# Altium integrated library Analog Devices Data Converters Analog-to-Digital Converters.IntLib: 2404 symbols (part 258 of 346)
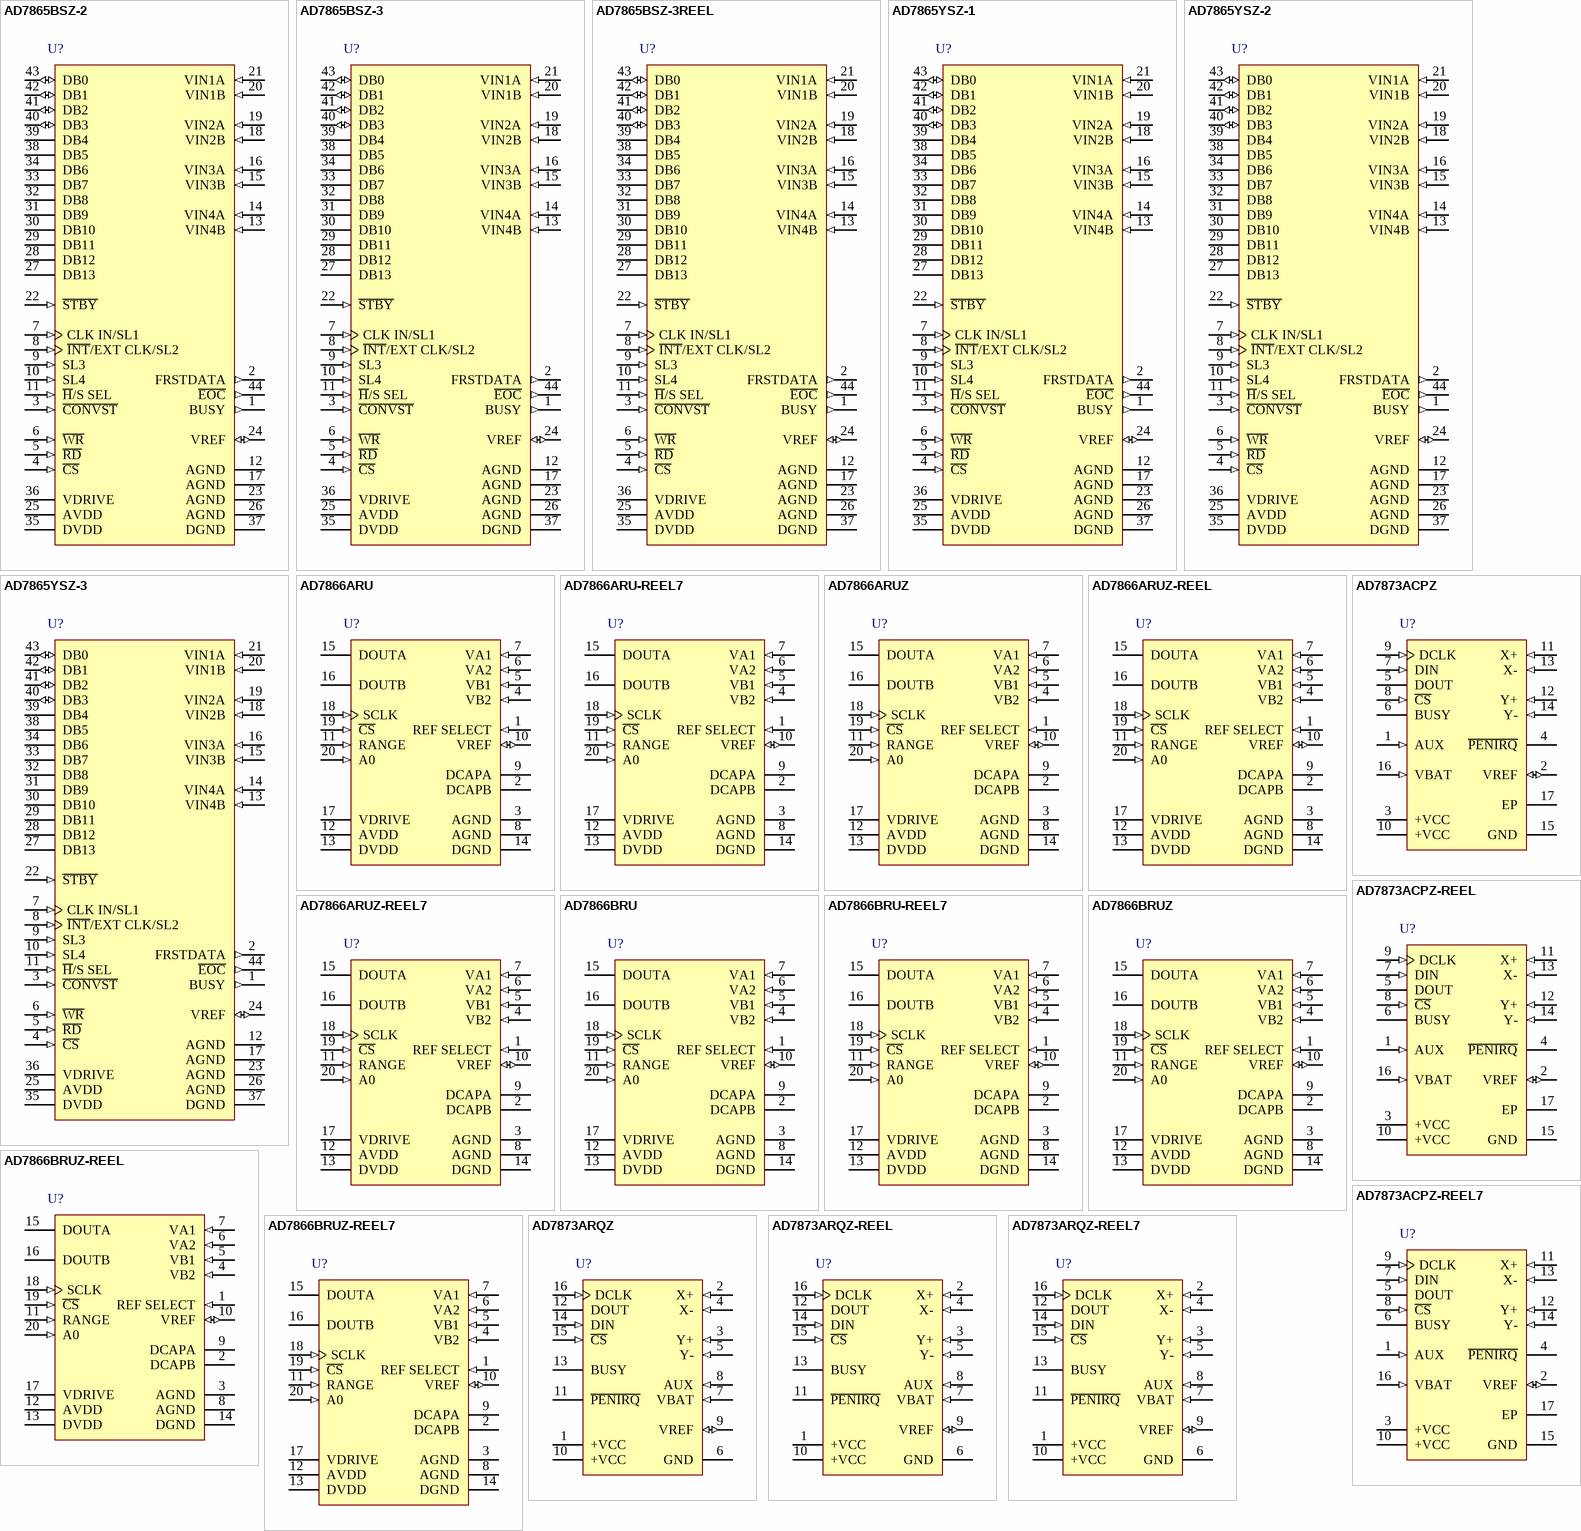
[diagram p292: symbols AD7865BSZ-2 to AD7873ARQZ-REEL7]

## AD7866BRU-REEL7
designator U?
Dual 12-Bit SAR Analog-to-Digital Converter with Serial, SPI Interface, 1MSPS, -40 to +125 degC, RU-20, Reel; Generic Part Number: AD7866; Manufacturer: Analog Devices; PartNumber: AD7866BRU-REEL7; Resolution (Bits): 12; Channels: 4; Throughput Rate (SPS): 1M; Interface: Ser, SPI; DatasheetVersion: Rev.A; PackageVersion: 2000; PackageReference: RU-20; PackageDescription: 20-Lead Thin Shrink Small Outline Package [TSSOP]; Supplier 1: Digi-Key; Supplier Part Number 1: AD7866BRU-REEL7-ND; Supplier 2: Newark; Supplier Part Number 2: 02H1742; Supplier 3: Mouser; Supplier Part Number 3: 584-AD7866BRU-R7; RoHS: N; Packing: Reel; Mounting Technology: Surface Mount; Code_JEDEC: MO-153AC; ComponentLink1Description: Manufacturer URL; ComponentLink1URL: http://www.analog.com/en/index.html; ComponentLink2Description: Datasheet; ComponentLink2URL: http://www.analog.com/static/imported-files/data_sheets/AD7866.pdf; ComponentLink3Description: Package Specification; ComponentLink3URL: http://www.analog.com/static/imported-files/packages/364515793657813558433715854054607941441RU20.pdf; ComponentLink4Description: Product URL; ComponentLink4URL: http://www.analog.com/en/analog-to-digital-converters/ad-converters/ad7866/products/product.html
footprint RU-20_N (TSOP, 20-Leads, Body 6.5x4.4mm, Pitch 0.65mm, IPC Medium Density)
footprint RU-20_L (TSOP, 20-Leads, Body 6.5x4.4mm, Pitch 0.65mm, IPC High Density)
footprint RU-20_M (TSOP, 20-Leads, Body 6.5x4.4mm, Pitch 0.65mm, IPC Low Density)
pins: 1 REF SELECT (in) "Internal/External Reference Selection. Logic input. If this pin is tied to GND, the on-chip 2.5 V reference is used as the reference source for both ADC A and ADC B. In addition, pins VREF, DCAPA, and DCAPB must be tied to (See Datasheet)", 2 DCAPB "Decoupling capacitors are connected to these pins to decouple the reference buffer for each respective ADC. The on-chip reference can be taken from these pins and applied externally to the rest of a system. Depending on the (See Datasheet)", 3 AGND (power) "Analog Ground. Ground reference point for all analog circuitry on the AD7866. All analog input signals and any external reference signal should be referred to this AGND voltage. Both of these pins should connect to the AGND (See Datasheet)", 4 VB2 (in) "Analog Inputs of ADC B. Single-ended analog input channels. The input range on each channel is 0 V to VREF or a 2 X VREF range depending on the polarity of the RANGE pin upon the falling edge of C\S\.", 5 VB1 (in) "Analog Inputs of ADC B. Single-ended analog input channels. The input range on each channel is 0 V to VREF or a 2 X VREF range depending on the polarity of the RANGE pin upon the falling edge of C\S\.", 6 VA2 (in) "Analog Inputs of ADC A. Single-ended analog input channels. The input range on each channel is 0 V to VREF or a 2 X VREF range depending on the polarity of the RANGE pin upon the falling edge of C\S\.", 7 VA1 (in) "Analog Inputs of ADC A. Single-ended analog input channels. The input range on each channel is 0 V to VREF or a 2 X VREF range depending on the polarity of the RANGE pin upon the falling edge of C\S\.", 8 AGND (power) "Analog Ground. Ground reference point for all analog circuitry on the AD7866. All analog input signals and any external reference signal should be referred to this AGND voltage. Both of these pins should connect to the AGND (See Datasheet)", 9 DCAPA "Decoupling capacitors are connected to these pins to decouple the reference buffer for each respective ADC. The on-chip reference can be taken from these pins and applied externally to the rest of a system. Depending on the (See Datasheet)", 10 VREF (io) "Reference Decoupling and External Reference Selection. This pin is connected to the internal reference and requires a decoupling capacitor. The nominal reference voltage is 2.5 V, which appears at the pin; however, if the (See Datasheet)", 11 RANGE (in) "Analog Input Range and Output Coding Selection. Logic input. The polarity on this pin will determine what input range the analog input channels on the AD7866 will have, and will also select the type of output coding the ADC (See Datasheet)", 12 AVDD (power) "Analog Supply Voltage, 2.7 V to 5.25 V. This is the only supply voltage for all analog circuitry on the AD7866. The AVDD and DVDD voltages ideally should be at the same potential and must not be more than 0.3 V apart even on (See Datasheet)", 13 DVDD (power) "Digital Supply Voltage, 2.7 V to 5.25 V. This is the supply voltage for all digital circuitry on the AD7866. The DVDD and AVDD voltages should ideally be at the same potential and must not be more than 0.3 V apart even on a (See Datasheet)", 14 DGND (power) "Digital Ground. This is the ground reference point for all digital circuitry on the AD7866. The DGND and AGND voltages ideally should be at the same potential and must not be more than 0.3 V apart even on a transient basis.", 15 DOUTA (hiz) "Serial Data Outputs. The data output is supplied to this pin as a serial data stream. The bits are clocked out on the falling edge of the SCLK input. The data appears on both pins simultaneously from the simultaneous (See Datasheet)", 16 DOUTB (hiz) "Serial Data Outputs. The data output is supplied to this pin as a serial data stream. The bits are clocked out on the falling edge of the SCLK input. The data appears on both pins simultaneously from the simultaneous (See Datasheet)", 17 VDRIVE (power) "Logic Power Supply Input. The voltage supplied at this pin determines at what voltage the interface will operate. This pin should be decoupled to DGND.", 18 SCLK (in) "Serial Clock. Logic Input. A serial clock input provides the SCLK for accessing the data from the AD7866. This clock is also used as the clock source for the conversion process.", 19 ~{CS} (in) "Chip Select. Active low logic input. This input provides the dual function of initiating conversions on the AD7866 and frames the serial data transfer.", 20 A0 (in) "Multiplexer Select. Logic input. This input is used to select the pair of channels to be converted simultaneously, i.e., Channel 1 of both ADC A and ADC B, or Channel 2 of both ADC A and ADC B. The logic state of this pin is (See Datasheet)"

## AD7866BRUZ
designator U?
Dual 12-Bit SAR Analog-to-Digital Converter with Serial, SPI Interface, 1MSPS, -40 to +125 degC, RU-20, Pb-Free, Tube; Generic Part Number: AD7866; Manufacturer: Analog Devices; PartNumber: AD7866BRUZ; Resolution (Bits): 12; Channels: 4; Throughput Rate (SPS): 1M; Interface: Ser, SPI; DatasheetVersion: Rev.A; PackageVersion: 2000; PackageReference: RU-20; PackageDescription: 20-Lead Thin Shrink Small Outline Package [TSSOP]; Supplier 1: Digi-Key; Supplier Part Number 1: AD7866BRUZ-ND; Supplier 2: Farnell; Supplier Part Number 2: 2192245; Supplier 3: Newark; Supplier Part Number 3: 59K5775; Supplier 4: Mouser; Supplier Part Number 4: 584-AD7866BRUZ; RoHS: Y; Packing: Tube; Mounting Technology: Surface Mount; Code_JEDEC: MO-153AC; ComponentLink1Description: Manufacturer URL; ComponentLink1URL: http://www.analog.com/en/index.html; ComponentLink2Description: Datasheet; ComponentLink2URL: http://www.analog.com/static/imported-files/data_sheets/AD7866.pdf; ComponentLink3Description: Package Specification; ComponentLink3URL: http://www.analog.com/static/imported-files/packages/364515793657813558433715854054607941441RU20.pdf; ComponentLink4Description: Product URL; ComponentLink4URL: http://www.analog.com/en/analog-to-digital-converters/ad-converters/ad7866/products/product.html
footprint RU-20_N (TSOP, 20-Leads, Body 6.5x4.4mm, Pitch 0.65mm, IPC Medium Density)
footprint RU-20_L (TSOP, 20-Leads, Body 6.5x4.4mm, Pitch 0.65mm, IPC High Density)
footprint RU-20_M (TSOP, 20-Leads, Body 6.5x4.4mm, Pitch 0.65mm, IPC Low Density)
pins: 1 REF SELECT (in) "Internal/External Reference Selection. Logic input. If this pin is tied to GND, the on-chip 2.5 V reference is used as the reference source for both ADC A and ADC B. In addition, pins VREF, DCAPA, and DCAPB must be tied to (See Datasheet)", 2 DCAPB "Decoupling capacitors are connected to these pins to decouple the reference buffer for each respective ADC. The on-chip reference can be taken from these pins and applied externally to the rest of a system. Depending on the (See Datasheet)", 3 AGND (power) "Analog Ground. Ground reference point for all analog circuitry on the AD7866. All analog input signals and any external reference signal should be referred to this AGND voltage. Both of these pins should connect to the AGND (See Datasheet)", 4 VB2 (in) "Analog Inputs of ADC B. Single-ended analog input channels. The input range on each channel is 0 V to VREF or a 2 X VREF range depending on the polarity of the RANGE pin upon the falling edge of C\S\.", 5 VB1 (in) "Analog Inputs of ADC B. Single-ended analog input channels. The input range on each channel is 0 V to VREF or a 2 X VREF range depending on the polarity of the RANGE pin upon the falling edge of C\S\.", 6 VA2 (in) "Analog Inputs of ADC A. Single-ended analog input channels. The input range on each channel is 0 V to VREF or a 2 X VREF range depending on the polarity of the RANGE pin upon the falling edge of C\S\.", 7 VA1 (in) "Analog Inputs of ADC A. Single-ended analog input channels. The input range on each channel is 0 V to VREF or a 2 X VREF range depending on the polarity of the RANGE pin upon the falling edge of C\S\.", 8 AGND (power) "Analog Ground. Ground reference point for all analog circuitry on the AD7866. All analog input signals and any external reference signal should be referred to this AGND voltage. Both of these pins should connect to the AGND (See Datasheet)", 9 DCAPA "Decoupling capacitors are connected to these pins to decouple the reference buffer for each respective ADC. The on-chip reference can be taken from these pins and applied externally to the rest of a system. Depending on the (See Datasheet)", 10 VREF (io) "Reference Decoupling and External Reference Selection. This pin is connected to the internal reference and requires a decoupling capacitor. The nominal reference voltage is 2.5 V, which appears at the pin; however, if the (See Datasheet)", 11 RANGE (in) "Analog Input Range and Output Coding Selection. Logic input. The polarity on this pin will determine what input range the analog input channels on the AD7866 will have, and will also select the type of output coding the ADC (See Datasheet)", 12 AVDD (power) "Analog Supply Voltage, 2.7 V to 5.25 V. This is the only supply voltage for all analog circuitry on the AD7866. The AVDD and DVDD voltages ideally should be at the same potential and must not be more than 0.3 V apart even on (See Datasheet)", 13 DVDD (power) "Digital Supply Voltage, 2.7 V to 5.25 V. This is the supply voltage for all digital circuitry on the AD7866. The DVDD and AVDD voltages should ideally be at the same potential and must not be more than 0.3 V apart even on a (See Datasheet)", 14 DGND (power) "Digital Ground. This is the ground reference point for all digital circuitry on the AD7866. The DGND and AGND voltages ideally should be at the same potential and must not be more than 0.3 V apart even on a transient basis.", 15 DOUTA (hiz) "Serial Data Outputs. The data output is supplied to this pin as a serial data stream. The bits are clocked out on the falling edge of the SCLK input. The data appears on both pins simultaneously from the simultaneous (See Datasheet)", 16 DOUTB (hiz) "Serial Data Outputs. The data output is supplied to this pin as a serial data stream. The bits are clocked out on the falling edge of the SCLK input. The data appears on both pins simultaneously from the simultaneous (See Datasheet)", 17 VDRIVE (power) "Logic Power Supply Input. The voltage supplied at this pin determines at what voltage the interface will operate. This pin should be decoupled to DGND.", 18 SCLK (in) "Serial Clock. Logic Input. A serial clock input provides the SCLK for accessing the data from the AD7866. This clock is also used as the clock source for the conversion process.", 19 ~{CS} (in) "Chip Select. Active low logic input. This input provides the dual function of initiating conversions on the AD7866 and frames the serial data transfer.", 20 A0 (in) "Multiplexer Select. Logic input. This input is used to select the pair of channels to be converted simultaneously, i.e., Channel 1 of both ADC A and ADC B, or Channel 2 of both ADC A and ADC B. The logic state of this pin is (See Datasheet)"

## AD7866BRUZ-REEL
designator U?
Dual 12-Bit SAR Analog-to-Digital Converter with Serial, SPI Interface, 1MSPS, -40 to +125 degC, RU-20, Pb-Free, Reel; Generic Part Number: AD7866; Manufacturer: Analog Devices; PartNumber: AD7866BRUZ-REEL; Resolution (Bits): 12; Channels: 4; Throughput Rate (SPS): 1M; Interface: Ser, SPI; DatasheetVersion: Rev.A; PackageVersion: 2000; PackageReference: RU-20; PackageDescription: 20-Lead Thin Shrink Small Outline Package [TSSOP]; Supplier 1: Digi-Key; Supplier Part Number 1: AD7866BRUZ-REEL-ND; Supplier 2: Mouser; Supplier Part Number 2: 584-AD7866BRUZ-R; RoHS: Y; Packing: Reel; Mounting Technology: Surface Mount; Code_JEDEC: MO-153AC; ComponentLink1Description: Manufacturer URL; ComponentLink1URL: http://www.analog.com/en/index.html; ComponentLink2Description: Datasheet; ComponentLink2URL: http://www.analog.com/static/imported-files/data_sheets/AD7866.pdf; ComponentLink3Description: Package Specification; ComponentLink3URL: http://www.analog.com/static/imported-files/packages/364515793657813558433715854054607941441RU20.pdf; ComponentLink4Description: Product URL; ComponentLink4URL: http://www.analog.com/en/analog-to-digital-converters/ad-converters/ad7866/products/product.html
footprint RU-20_N (TSOP, 20-Leads, Body 6.5x4.4mm, Pitch 0.65mm, IPC Medium Density)
footprint RU-20_L (TSOP, 20-Leads, Body 6.5x4.4mm, Pitch 0.65mm, IPC High Density)
footprint RU-20_M (TSOP, 20-Leads, Body 6.5x4.4mm, Pitch 0.65mm, IPC Low Density)
pins: 1 REF SELECT (in) "Internal/External Reference Selection. Logic input. If this pin is tied to GND, the on-chip 2.5 V reference is used as the reference source for both ADC A and ADC B. In addition, pins VREF, DCAPA, and DCAPB must be tied to (See Datasheet)", 2 DCAPB "Decoupling capacitors are connected to these pins to decouple the reference buffer for each respective ADC. The on-chip reference can be taken from these pins and applied externally to the rest of a system. Depending on the (See Datasheet)", 3 AGND (power) "Analog Ground. Ground reference point for all analog circuitry on the AD7866. All analog input signals and any external reference signal should be referred to this AGND voltage. Both of these pins should connect to the AGND (See Datasheet)", 4 VB2 (in) "Analog Inputs of ADC B. Single-ended analog input channels. The input range on each channel is 0 V to VREF or a 2 X VREF range depending on the polarity of the RANGE pin upon the falling edge of C\S\.", 5 VB1 (in) "Analog Inputs of ADC B. Single-ended analog input channels. The input range on each channel is 0 V to VREF or a 2 X VREF range depending on the polarity of the RANGE pin upon the falling edge of C\S\.", 6 VA2 (in) "Analog Inputs of ADC A. Single-ended analog input channels. The input range on each channel is 0 V to VREF or a 2 X VREF range depending on the polarity of the RANGE pin upon the falling edge of C\S\.", 7 VA1 (in) "Analog Inputs of ADC A. Single-ended analog input channels. The input range on each channel is 0 V to VREF or a 2 X VREF range depending on the polarity of the RANGE pin upon the falling edge of C\S\.", 8 AGND (power) "Analog Ground. Ground reference point for all analog circuitry on the AD7866. All analog input signals and any external reference signal should be referred to this AGND voltage. Both of these pins should connect to the AGND (See Datasheet)", 9 DCAPA "Decoupling capacitors are connected to these pins to decouple the reference buffer for each respective ADC. The on-chip reference can be taken from these pins and applied externally to the rest of a system. Depending on the (See Datasheet)", 10 VREF (io) "Reference Decoupling and External Reference Selection. This pin is connected to the internal reference and requires a decoupling capacitor. The nominal reference voltage is 2.5 V, which appears at the pin; however, if the (See Datasheet)", 11 RANGE (in) "Analog Input Range and Output Coding Selection. Logic input. The polarity on this pin will determine what input range the analog input channels on the AD7866 will have, and will also select the type of output coding the ADC (See Datasheet)", 12 AVDD (power) "Analog Supply Voltage, 2.7 V to 5.25 V. This is the only supply voltage for all analog circuitry on the AD7866. The AVDD and DVDD voltages ideally should be at the same potential and must not be more than 0.3 V apart even on (See Datasheet)", 13 DVDD (power) "Digital Supply Voltage, 2.7 V to 5.25 V. This is the supply voltage for all digital circuitry on the AD7866. The DVDD and AVDD voltages should ideally be at the same potential and must not be more than 0.3 V apart even on a (See Datasheet)", 14 DGND (power) "Digital Ground. This is the ground reference point for all digital circuitry on the AD7866. The DGND and AGND voltages ideally should be at the same potential and must not be more than 0.3 V apart even on a transient basis.", 15 DOUTA (hiz) "Serial Data Outputs. The data output is supplied to this pin as a serial data stream. The bits are clocked out on the falling edge of the SCLK input. The data appears on both pins simultaneously from the simultaneous (See Datasheet)", 16 DOUTB (hiz) "Serial Data Outputs. The data output is supplied to this pin as a serial data stream. The bits are clocked out on the falling edge of the SCLK input. The data appears on both pins simultaneously from the simultaneous (See Datasheet)", 17 VDRIVE (power) "Logic Power Supply Input. The voltage supplied at this pin determines at what voltage the interface will operate. This pin should be decoupled to DGND.", 18 SCLK (in) "Serial Clock. Logic Input. A serial clock input provides the SCLK for accessing the data from the AD7866. This clock is also used as the clock source for the conversion process.", 19 ~{CS} (in) "Chip Select. Active low logic input. This input provides the dual function of initiating conversions on the AD7866 and frames the serial data transfer.", 20 A0 (in) "Multiplexer Select. Logic input. This input is used to select the pair of channels to be converted simultaneously, i.e., Channel 1 of both ADC A and ADC B, or Channel 2 of both ADC A and ADC B. The logic state of this pin is (See Datasheet)"

## AD7866BRUZ-REEL7
designator U?
Dual 12-Bit SAR Analog-to-Digital Converter with Serial, SPI Interface, 1MSPS, -40 to +125 degC, RU-20, Pb-Free, Reel; Generic Part Number: AD7866; Manufacturer: Analog Devices; PartNumber: AD7866BRUZ-REEL7; Resolution (Bits): 12; Channels: 4; Throughput Rate (SPS): 1M; Interface: Ser, SPI; DatasheetVersion: Rev.A; PackageVersion: 2000; PackageReference: RU-20; PackageDescription: 20-Lead Thin Shrink Small Outline Package [TSSOP]; Supplier 1: Digi-Key; Supplier Part Number 1: AD7866BRUZ-REEL7-ND; Supplier 2: Mouser; Supplier Part Number 2: 584-AD7866BRUZ-R7; RoHS: Y; Packing: Reel; Mounting Technology: Surface Mount; Code_JEDEC: MO-153AC; ComponentLink1Description: Manufacturer URL; ComponentLink1URL: http://www.analog.com/en/index.html; ComponentLink2Description: Datasheet; ComponentLink2URL: http://www.analog.com/static/imported-files/data_sheets/AD7866.pdf; ComponentLink3Description: Package Specification; ComponentLink3URL: http://www.analog.com/static/imported-files/packages/364515793657813558433715854054607941441RU20.pdf; ComponentLink4Description: Product URL; ComponentLink4URL: http://www.analog.com/en/analog-to-digital-converters/ad-converters/ad7866/products/product.html
footprint RU-20_N (TSOP, 20-Leads, Body 6.5x4.4mm, Pitch 0.65mm, IPC Medium Density)
footprint RU-20_L (TSOP, 20-Leads, Body 6.5x4.4mm, Pitch 0.65mm, IPC High Density)
footprint RU-20_M (TSOP, 20-Leads, Body 6.5x4.4mm, Pitch 0.65mm, IPC Low Density)
pins: 1 REF SELECT (in) "Internal/External Reference Selection. Logic input. If this pin is tied to GND, the on-chip 2.5 V reference is used as the reference source for both ADC A and ADC B. In addition, pins VREF, DCAPA, and DCAPB must be tied to (See Datasheet)", 2 DCAPB "Decoupling capacitors are connected to these pins to decouple the reference buffer for each respective ADC. The on-chip reference can be taken from these pins and applied externally to the rest of a system. Depending on the (See Datasheet)", 3 AGND (power) "Analog Ground. Ground reference point for all analog circuitry on the AD7866. All analog input signals and any external reference signal should be referred to this AGND voltage. Both of these pins should connect to the AGND (See Datasheet)", 4 VB2 (in) "Analog Inputs of ADC B. Single-ended analog input channels. The input range on each channel is 0 V to VREF or a 2 X VREF range depending on the polarity of the RANGE pin upon the falling edge of C\S\.", 5 VB1 (in) "Analog Inputs of ADC B. Single-ended analog input channels. The input range on each channel is 0 V to VREF or a 2 X VREF range depending on the polarity of the RANGE pin upon the falling edge of C\S\.", 6 VA2 (in) "Analog Inputs of ADC A. Single-ended analog input channels. The input range on each channel is 0 V to VREF or a 2 X VREF range depending on the polarity of the RANGE pin upon the falling edge of C\S\.", 7 VA1 (in) "Analog Inputs of ADC A. Single-ended analog input channels. The input range on each channel is 0 V to VREF or a 2 X VREF range depending on the polarity of the RANGE pin upon the falling edge of C\S\.", 8 AGND (power) "Analog Ground. Ground reference point for all analog circuitry on the AD7866. All analog input signals and any external reference signal should be referred to this AGND voltage. Both of these pins should connect to the AGND (See Datasheet)", 9 DCAPA "Decoupling capacitors are connected to these pins to decouple the reference buffer for each respective ADC. The on-chip reference can be taken from these pins and applied externally to the rest of a system. Depending on the (See Datasheet)", 10 VREF (io) "Reference Decoupling and External Reference Selection. This pin is connected to the internal reference and requires a decoupling capacitor. The nominal reference voltage is 2.5 V, which appears at the pin; however, if the (See Datasheet)", 11 RANGE (in) "Analog Input Range and Output Coding Selection. Logic input. The polarity on this pin will determine what input range the analog input channels on the AD7866 will have, and will also select the type of output coding the ADC (See Datasheet)", 12 AVDD (power) "Analog Supply Voltage, 2.7 V to 5.25 V. This is the only supply voltage for all analog circuitry on the AD7866. The AVDD and DVDD voltages ideally should be at the same potential and must not be more than 0.3 V apart even on (See Datasheet)", 13 DVDD (power) "Digital Supply Voltage, 2.7 V to 5.25 V. This is the supply voltage for all digital circuitry on the AD7866. The DVDD and AVDD voltages should ideally be at the same potential and must not be more than 0.3 V apart even on a (See Datasheet)", 14 DGND (power) "Digital Ground. This is the ground reference point for all digital circuitry on the AD7866. The DGND and AGND voltages ideally should be at the same potential and must not be more than 0.3 V apart even on a transient basis.", 15 DOUTA (hiz) "Serial Data Outputs. The data output is supplied to this pin as a serial data stream. The bits are clocked out on the falling edge of the SCLK input. The data appears on both pins simultaneously from the simultaneous (See Datasheet)", 16 DOUTB (hiz) "Serial Data Outputs. The data output is supplied to this pin as a serial data stream. The bits are clocked out on the falling edge of the SCLK input. The data appears on both pins simultaneously from the simultaneous (See Datasheet)", 17 VDRIVE (power) "Logic Power Supply Input. The voltage supplied at this pin determines at what voltage the interface will operate. This pin should be decoupled to DGND.", 18 SCLK (in) "Serial Clock. Logic Input. A serial clock input provides the SCLK for accessing the data from the AD7866. This clock is also used as the clock source for the conversion process.", 19 ~{CS} (in) "Chip Select. Active low logic input. This input provides the dual function of initiating conversions on the AD7866 and frames the serial data transfer.", 20 A0 (in) "Multiplexer Select. Logic input. This input is used to select the pair of channels to be converted simultaneously, i.e., Channel 1 of both ADC A and ADC B, or Channel 2 of both ADC A and ADC B. The logic state of this pin is (See Datasheet)"

## AD7873ACPZ
designator U?
6 Channel Touch Screen Digitizer with Serial Interface, 125KSPS, -40 to +85 degC, CP-16-4, Pb-Free, Tray; Generic Part Number: AD7873; Manufacturer: Analog Devices; PartNumber: AD7873ACPZ; Resolution (Bits): 12; Channels: 6; Throughput Rate (SPS): 125K; Interface: Ser; DatasheetVersion: Rev.E; PackageVersion: 010606-0; PackageReference: CP-16-4; PackageDescription: 16-Lead Lead Frame Chip Scale Package [LFCSP_VQ] 4 x 4 mm Body, Very Thin Quad; Supplier 1: Digi-Key; Supplier Part Number 1: AD7873ACPZ-ND; Supplier 2: Newark; Supplier Part Number 2: 19M8859; Supplier 3: Mouser; Supplier Part Number 3: 584-AD7873ACPZ; RoHS: Y; Packing: Tray; Mounting Technology: Surface Mount; Code_JEDEC: MO-220-VGGC; ComponentLink1Description: Manufacturer URL; ComponentLink1URL: http://www.analog.com/en/index.html; ComponentLink2Description: Datasheet; ComponentLink2URL: http://www.analog.com/static/imported-files/data_sheets/AD7873.pdf; ComponentLink3Description: Package Specification; ComponentLink3URL: http://www.analog.com/static/imported-files/packages/46009454504174339653421710019CP_16_4.pdf; ComponentLink4Description: Product URL; ComponentLink4URL: http://www.analog.com/en/analog-to-digital-converters/ad-converters/ad7873/products/product.html
footprint CP-16-4_N (QFN, 16-Leads, Body 4x4mm, Pitch 0.65mm, Thermal Pad 2.1x2.1mm, IPC Medium Density)
footprint CP-16-4_L (QFN, 16-Leads, Body 4x4mm, Pitch 0.65mm, Thermal Pad 2.1x2.1mm, IPC High Density)
footprint CP-16-4_M (QFN, 16-Leads, Body 4x4mm, Pitch 0.65mm, Thermal Pad 2.1x2.1mm, IPC Low Density)
pins: 1 AUX (in) "Auxiliary Input. ADC Input Channel 5.", 2 VREF (io) "Reference Output for the AD7873. Alternatively, an external reference can be applied to this input. The voltage range for the external reference is 1.0 V to +VCC. For specified performance, it is 2.5 V on the AD7873. The (See Datasheet)", 3 +VCC (power) "Power Supply Input. The +VCC range for the AD7873 is from 2.2 V to 5.25 V. Both +VCC pins should be connected directly together.", 4 ~{PENIRQ} (oc) "Pen Interrupt. CMOS logic open-drain output (requires 10 kO to 100 kO pull-up resistor externally).", 5 DOUT (hiz) "Data Out. Logic output. The conversion result from the AD7873 is provided on this output as a serial data stream. The bits are clocked out on the falling edge of the DCLK input. This output is high impedance when C\S\ is (See Datasheet)", 6 BUSY (hiz) "BUSY Output. Logic output. This output is high impedance when C\S\ is high.", 7 DIN (in) "Data In. Logic Input. Data to be written to the AD7873 control register is provided on this input and is clocked into the register on the rising edge of DCLK (see the Control Register section).", 8 ~{CS} (in) "Chip Select Input. Active low logic input. This input provides the dual function of initiating conversions on the AD7873 and enabling the serial input/output register.", 9 DCLK (in) "External Clock Input. Logic input. DCLK provides the serial clock for accessing data from the part. This clock input is also used as the clock source for the AD7873 conversion process.", 10 +VCC (power) "Power Supply Input. The +VCC range for the AD7873 is from 2.2 V to 5.25 V. Both +VCC pins should be connected directly together.", 11 X+ (in) "X+ Position Input. ADC Input Channel 1.", 12 Y+ (in) "Y+ Position Input. ADC Input Channel 2.", 13 X- (in) "X- Position Input.", 14 Y- (in) "Y- Position Input. ADC Input Channel 3.", 15 GND (power) "Analog Ground. Ground reference point for all circuitry on the AD7873. All analog input signals and any external reference signals should be referred to this GND voltage.", 16 VBAT (in) "Battery Monitor Input. ADC Input Channel 4.", 17 EP (power) "Exposed pad."

## AD7873ACPZ-REEL
designator U?
6 Channel Touch Screen Digitizer with Serial Interface, 125KSPS, -40 to +85 degC, CP-16-4, Pb-Free, Reel; Generic Part Number: AD7873; Manufacturer: Analog Devices; PartNumber: AD7873ACPZ-REEL; Resolution (Bits): 12; Channels: 6; Throughput Rate (SPS): 125K; Interface: Ser; DatasheetVersion: Rev.E; PackageVersion: 010606-0; PackageReference: CP-16-4; PackageDescription: 16-Lead Lead Frame Chip Scale Package [LFCSP_VQ] 4 x 4 mm Body, Very Thin Quad; Supplier 1: Digi-Key; Supplier Part Number 1: AD7873ACPZ-REEL-ND; Supplier 2: Mouser; Supplier Part Number 2: 584-AD7873ACPZ-R; RoHS: Y; Packing: Reel; Mounting Technology: Surface Mount; Code_JEDEC: MO-220-VGGC; ComponentLink1Description: Manufacturer URL; ComponentLink1URL: http://www.analog.com/en/index.html; ComponentLink2Description: Datasheet; ComponentLink2URL: http://www.analog.com/static/imported-files/data_sheets/AD7873.pdf; ComponentLink3Description: Package Specification; ComponentLink3URL: http://www.analog.com/static/imported-files/packages/46009454504174339653421710019CP_16_4.pdf; ComponentLink4Description: Product URL; ComponentLink4URL: http://www.analog.com/en/analog-to-digital-converters/ad-converters/ad7873/products/product.html
footprint CP-16-4_N (QFN, 16-Leads, Body 4x4mm, Pitch 0.65mm, Thermal Pad 2.1x2.1mm, IPC Medium Density)
footprint CP-16-4_L (QFN, 16-Leads, Body 4x4mm, Pitch 0.65mm, Thermal Pad 2.1x2.1mm, IPC High Density)
footprint CP-16-4_M (QFN, 16-Leads, Body 4x4mm, Pitch 0.65mm, Thermal Pad 2.1x2.1mm, IPC Low Density)
pins: 1 AUX (in) "Auxiliary Input. ADC Input Channel 5.", 2 VREF (io) "Reference Output for the AD7873. Alternatively, an external reference can be applied to this input. The voltage range for the external reference is 1.0 V to +VCC. For specified performance, it is 2.5 V on the AD7873. The (See Datasheet)", 3 +VCC (power) "Power Supply Input. The +VCC range for the AD7873 is from 2.2 V to 5.25 V. Both +VCC pins should be connected directly together.", 4 ~{PENIRQ} (oc) "Pen Interrupt. CMOS logic open-drain output (requires 10 kO to 100 kO pull-up resistor externally).", 5 DOUT (hiz) "Data Out. Logic output. The conversion result from the AD7873 is provided on this output as a serial data stream. The bits are clocked out on the falling edge of the DCLK input. This output is high impedance when C\S\ is (See Datasheet)", 6 BUSY (hiz) "BUSY Output. Logic output. This output is high impedance when C\S\ is high.", 7 DIN (in) "Data In. Logic Input. Data to be written to the AD7873 control register is provided on this input and is clocked into the register on the rising edge of DCLK (see the Control Register section).", 8 ~{CS} (in) "Chip Select Input. Active low logic input. This input provides the dual function of initiating conversions on the AD7873 and enabling the serial input/output register.", 9 DCLK (in) "External Clock Input. Logic input. DCLK provides the serial clock for accessing data from the part. This clock input is also used as the clock source for the AD7873 conversion process.", 10 +VCC (power) "Power Supply Input. The +VCC range for the AD7873 is from 2.2 V to 5.25 V. Both +VCC pins should be connected directly together.", 11 X+ (in) "X+ Position Input. ADC Input Channel 1.", 12 Y+ (in) "Y+ Position Input. ADC Input Channel 2.", 13 X- (in) "X- Position Input.", 14 Y- (in) "Y- Position Input. ADC Input Channel 3.", 15 GND (power) "Analog Ground. Ground reference point for all circuitry on the AD7873. All analog input signals and any external reference signals should be referred to this GND voltage.", 16 VBAT (in) "Battery Monitor Input. ADC Input Channel 4.", 17 EP (power) "Exposed pad."

## AD7873ACPZ-REEL7
designator U?
6 Channel Touch Screen Digitizer with Serial Interface, 125KSPS, -40 to +85 degC, CP-16-4, Pb-Free, Reel; Generic Part Number: AD7873; Manufacturer: Analog Devices; PartNumber: AD7873ACPZ-REEL7; Resolution (Bits): 12; Channels: 6; Throughput Rate (SPS): 125K; Interface: Ser; DatasheetVersion: Rev.E; PackageVersion: 010606-0; PackageReference: CP-16-4; PackageDescription: 16-Lead Lead Frame Chip Scale Package [LFCSP_VQ] 4 x 4 mm Body, Very Thin Quad; Supplier 1: Digi-Key; Supplier Part Number 1: AD7873ACPZ-REEL7-ND; RoHS: Y; Packing: Reel; Mounting Technology: Surface Mount; Code_JEDEC: MO-220-VGGC; ComponentLink1Description: Manufacturer URL; ComponentLink1URL: http://www.analog.com/en/index.html; ComponentLink2Description: Datasheet; ComponentLink2URL: http://www.analog.com/static/imported-files/data_sheets/AD7873.pdf; ComponentLink3Description: Package Specification; ComponentLink3URL: http://www.analog.com/static/imported-files/packages/46009454504174339653421710019CP_16_4.pdf; ComponentLink4Description: Product URL; ComponentLink4URL: http://www.analog.com/en/analog-to-digital-converters/ad-converters/ad7873/products/product.html
footprint CP-16-4_N (QFN, 16-Leads, Body 4x4mm, Pitch 0.65mm, Thermal Pad 2.1x2.1mm, IPC Medium Density)
footprint CP-16-4_L (QFN, 16-Leads, Body 4x4mm, Pitch 0.65mm, Thermal Pad 2.1x2.1mm, IPC High Density)
footprint CP-16-4_M (QFN, 16-Leads, Body 4x4mm, Pitch 0.65mm, Thermal Pad 2.1x2.1mm, IPC Low Density)
pins: 1 AUX (in) "Auxiliary Input. ADC Input Channel 5.", 2 VREF (io) "Reference Output for the AD7873. Alternatively, an external reference can be applied to this input. The voltage range for the external reference is 1.0 V to +VCC. For specified performance, it is 2.5 V on the AD7873. The (See Datasheet)", 3 +VCC (power) "Power Supply Input. The +VCC range for the AD7873 is from 2.2 V to 5.25 V. Both +VCC pins should be connected directly together.", 4 ~{PENIRQ} (oc) "Pen Interrupt. CMOS logic open-drain output (requires 10 kO to 100 kO pull-up resistor externally).", 5 DOUT (hiz) "Data Out. Logic output. The conversion result from the AD7873 is provided on this output as a serial data stream. The bits are clocked out on the falling edge of the DCLK input. This output is high impedance when C\S\ is (See Datasheet)", 6 BUSY (hiz) "BUSY Output. Logic output. This output is high impedance when C\S\ is high.", 7 DIN (in) "Data In. Logic Input. Data to be written to the AD7873 control register is provided on this input and is clocked into the register on the rising edge of DCLK (see the Control Register section).", 8 ~{CS} (in) "Chip Select Input. Active low logic input. This input provides the dual function of initiating conversions on the AD7873 and enabling the serial input/output register.", 9 DCLK (in) "External Clock Input. Logic input. DCLK provides the serial clock for accessing data from the part. This clock input is also used as the clock source for the AD7873 conversion process.", 10 +VCC (power) "Power Supply Input. The +VCC range for the AD7873 is from 2.2 V to 5.25 V. Both +VCC pins should be connected directly together.", 11 X+ (in) "X+ Position Input. ADC Input Channel 1.", 12 Y+ (in) "Y+ Position Input. ADC Input Channel 2.", 13 X- (in) "X- Position Input.", 14 Y- (in) "Y- Position Input. ADC Input Channel 3.", 15 GND (power) "Analog Ground. Ground reference point for all circuitry on the AD7873. All analog input signals and any external reference signals should be referred to this GND voltage.", 16 VBAT (in) "Battery Monitor Input. ADC Input Channel 4.", 17 EP (power) "Exposed pad."

## AD7873ARQZ
designator U?
6 Channel Touch Screen Digitizer with Serial Interface, 125KSPS, -40 to +85 degC, RQ-16, Pb-Free, Tube; Generic Part Number: AD7873; Manufacturer: Analog Devices; PartNumber: AD7873ARQZ; Resolution (Bits): 12; Channels: 6; Throughput Rate (SPS): 125K; Interface: Ser; DatasheetVersion: Rev.E; PackageVersion: Aug-2005; PackageReference: RQ-16; PackageDescription: 16-Lead Shrink Small Outline Package [QSOP]; Supplier 1: Digi-Key; Supplier Part Number 1: AD7873ARQZ-ND; Supplier 2: Newark; Supplier Part Number 2: 59K5797; Supplier 3: Mouser; Supplier Part Number 3: 584-AD7873ARQZ; RoHS: Y; Packing: Tube; Mounting Technology: Surface Mount; Code_JEDEC: MO-137-AB; ComponentLink1Description: Manufacturer URL; ComponentLink1URL: http://www.analog.com/en/index.html; ComponentLink2Description: Datasheet; ComponentLink2URL: http://www.analog.com/static/imported-files/data_sheets/AD7873.pdf; ComponentLink3Description: Package Specification; ComponentLink3URL: http://www.analog.com/static/imported-files/packages/5595549651201762937RQ_16.pdf; ComponentLink4Description: Product URL; ComponentLink4URL: http://www.analog.com/en/analog-to-digital-converters/ad-converters/ad7873/products/product.html
footprint RQ-16_N (SOP, 16-Leads, Body 4.9x3.9mm, Pitch 0.635mm, IPC Medium Density)
footprint RQ-16_L (SOP, 16-Leads, Body 4.9x3.9mm, Pitch 0.635mm, IPC High Density)
footprint RQ-16_M (SOP, 16-Leads, Body 4.9x3.9mm, Pitch 0.635mm, IPC Low Density)
pins: 1 +VCC (power) "Power Supply Input. The +VCC range for the AD7873 is from 2.2 V to 5.25 V. Both +VCC pins should be connected directly together", 2 X+ (in) "X+ Position Input. ADC Input Channel 1.", 3 Y+ (in) "Y+ Position Input. ADC Input Channel 2.", 4 X- (in) "X- Position Input.", 5 Y- (in) "Y- Position Input. ADC Input Channel 3.", 6 GND (power) "Analog Ground. Ground reference point for all circuitry on the AD7873. All analog input signals and any external reference signals should be referred to this GND voltage.", 7 VBAT (in) "Battery Monitor Input. ADC Input Channel 4", 8 AUX (in) "Auxiliary Input. ADC Input Channel 5.", 9 VREF (io) "Reference Output for the AD7873. Alternatively, an external reference can be applied to this input.The voltage range for the external reference is 1.0 V to +VCC. For specified performance, it is 2.5 V on the AD7873. The (See Datasheet)", 10 +VCC (power) "Power Supply Input. The +VCC range for the AD7873 is from 2.2 V to 5.25 V. Both +VCC pins should be connected directly together", 11 ~{PENIRQ} (oc) "Pen Interrupt. CMOS logic open-drain output (requires 10 kO to 100 kO pull-up resistor externally).", 12 DOUT (hiz) "Data Out. Logic output. The conversion result from the AD7873 is provided on this output as a serial data stream. The bits are clocked out on the falling edge of the DCLK input. This output is high impedance when C\S\ is (See Datasheet)", 13 BUSY (hiz) "BUSY Output. Logic output. This output is high impedance when C\S\ is high", 14 DIN (in) "Data In. Logic Input. Data to be written to the AD7873 control register is provided on this input and is clocked into the register on the rising edge of DCLK (see the Control Register section).", 15 ~{CS} (in) "Chip Select Input. Active low logic input. This input provides the dual function of initiating conversions on the AD7873 and enabling the serial input/output register.", 16 DCLK (in) "External Clock Input. Logic input. DCLK provides the serial clock for accessing data from the part.This clock input is also used as the clock source for the AD7873 conversion process."

## AD7873ARQZ-REEL
designator U?
6 Channel Touch Screen Digitizer with Serial Interface, 125KSPS, -40 to +85 degC, RQ-16, Pb-Free, Reel; Generic Part Number: AD7873; Manufacturer: Analog Devices; PartNumber: AD7873ARQZ-REEL; Resolution (Bits): 12; Channels: 6; Throughput Rate (SPS): 125K; Interface: Ser; DatasheetVersion: Rev.E; PackageVersion: Aug-2005; PackageReference: RQ-16; PackageDescription: 16-Lead Shrink Small Outline Package [QSOP]; Supplier 1: Digi-Key; Supplier Part Number 1: AD7873ARQZ-REEL-ND; Supplier 2: Mouser; Supplier Part Number 2: 584-AD7873ARQZ-R; RoHS: Y; Packing: Reel; Mounting Technology: Surface Mount; Code_JEDEC: MO-137-AB; ComponentLink1Description: Manufacturer URL; ComponentLink1URL: http://www.analog.com/en/index.html; ComponentLink2Description: Datasheet; ComponentLink2URL: http://www.analog.com/static/imported-files/data_sheets/AD7873.pdf; ComponentLink3Description: Package Specification; ComponentLink3URL: http://www.analog.com/static/imported-files/packages/5595549651201762937RQ_16.pdf; ComponentLink4Description: Product URL; ComponentLink4URL: http://www.analog.com/en/analog-to-digital-converters/ad-converters/ad7873/products/product.html
footprint RQ-16_N (SOP, 16-Leads, Body 4.9x3.9mm, Pitch 0.635mm, IPC Medium Density)
footprint RQ-16_L (SOP, 16-Leads, Body 4.9x3.9mm, Pitch 0.635mm, IPC High Density)
footprint RQ-16_M (SOP, 16-Leads, Body 4.9x3.9mm, Pitch 0.635mm, IPC Low Density)
pins: 1 +VCC (power) "Power Supply Input. The +VCC range for the AD7873 is from 2.2 V to 5.25 V. Both +VCC pins should be connected directly together", 2 X+ (in) "X+ Position Input. ADC Input Channel 1.", 3 Y+ (in) "Y+ Position Input. ADC Input Channel 2.", 4 X- (in) "X- Position Input.", 5 Y- (in) "Y- Position Input. ADC Input Channel 3.", 6 GND (power) "Analog Ground. Ground reference point for all circuitry on the AD7873. All analog input signals and any external reference signals should be referred to this GND voltage.", 7 VBAT (in) "Battery Monitor Input. ADC Input Channel 4", 8 AUX (in) "Auxiliary Input. ADC Input Channel 5.", 9 VREF (io) "Reference Output for the AD7873. Alternatively, an external reference can be applied to this input.The voltage range for the external reference is 1.0 V to +VCC. For specified performance, it is 2.5 V on the AD7873. The (See Datasheet)", 10 +VCC (power) "Power Supply Input. The +VCC range for the AD7873 is from 2.2 V to 5.25 V. Both +VCC pins should be connected directly together", 11 ~{PENIRQ} (oc) "Pen Interrupt. CMOS logic open-drain output (requires 10 kO to 100 kO pull-up resistor externally).", 12 DOUT (hiz) "Data Out. Logic output. The conversion result from the AD7873 is provided on this output as a serial data stream. The bits are clocked out on the falling edge of the DCLK input. This output is high impedance when C\S\ is (See Datasheet)", 13 BUSY (hiz) "BUSY Output. Logic output. This output is high impedance when C\S\ is high", 14 DIN (in) "Data In. Logic Input. Data to be written to the AD7873 control register is provided on this input and is clocked into the register on the rising edge of DCLK (see the Control Register section).", 15 ~{CS} (in) "Chip Select Input. Active low logic input. This input provides the dual function of initiating conversions on the AD7873 and enabling the serial input/output register.", 16 DCLK (in) "External Clock Input. Logic input. DCLK provides the serial clock for accessing data from the part.This clock input is also used as the clock source for the AD7873 conversion process."

## AD7873ARQZ-REEL7
designator U?
6 Channel Touch Screen Digitizer with Serial Interface, 125KSPS, -40 to +85 degC, RQ-16, Pb-Free, Reel; Generic Part Number: AD7873; Manufacturer: Analog Devices; PartNumber: AD7873ARQZ-REEL7; Resolution (Bits): 12; Channels: 6; Throughput Rate (SPS): 125K; Interface: Ser; DatasheetVersion: Rev.E; PackageVersion: Aug-2005; PackageReference: RQ-16; PackageDescription: 16-Lead Shrink Small Outline Package [QSOP]; Supplier 1: Digi-Key; Supplier Part Number 1: AD7873ARQZ-REEL7-ND; Supplier 2: Newark; Supplier Part Number 2: 59K5799; Supplier 3: Mouser; Supplier Part Number 3: 584-AD7873ARQZ-R7; RoHS: Y; Packing: Reel; Mounting Technology: Surface Mount; Code_JEDEC: MO-137-AB; ComponentLink1Description: Manufacturer URL; ComponentLink1URL: http://www.analog.com/en/index.html; ComponentLink2Description: Datasheet; ComponentLink2URL: http://www.analog.com/static/imported-files/data_sheets/AD7873.pdf; ComponentLink3Description: Package Specification; ComponentLink3URL: http://www.analog.com/static/imported-files/packages/5595549651201762937RQ_16.pdf; ComponentLink4Description: Product URL; ComponentLink4URL: http://www.analog.com/en/analog-to-digital-converters/ad-converters/ad7873/products/product.html
footprint RQ-16_N (SOP, 16-Leads, Body 4.9x3.9mm, Pitch 0.635mm, IPC Medium Density)
footprint RQ-16_L (SOP, 16-Leads, Body 4.9x3.9mm, Pitch 0.635mm, IPC High Density)
footprint RQ-16_M (SOP, 16-Leads, Body 4.9x3.9mm, Pitch 0.635mm, IPC Low Density)
pins: 1 +VCC (power) "Power Supply Input. The +VCC range for the AD7873 is from 2.2 V to 5.25 V. Both +VCC pins should be connected directly together", 2 X+ (in) "X+ Position Input. ADC Input Channel 1.", 3 Y+ (in) "Y+ Position Input. ADC Input Channel 2.", 4 X- (in) "X- Position Input.", 5 Y- (in) "Y- Position Input. ADC Input Channel 3.", 6 GND (power) "Analog Ground. Ground reference point for all circuitry on the AD7873. All analog input signals and any external reference signals should be referred to this GND voltage.", 7 VBAT (in) "Battery Monitor Input. ADC Input Channel 4", 8 AUX (in) "Auxiliary Input. ADC Input Channel 5.", 9 VREF (io) "Reference Output for the AD7873. Alternatively, an external reference can be applied to this input.The voltage range for the external reference is 1.0 V to +VCC. For specified performance, it is 2.5 V on the AD7873. The (See Datasheet)", 10 +VCC (power) "Power Supply Input. The +VCC range for the AD7873 is from 2.2 V to 5.25 V. Both +VCC pins should be connected directly together", 11 ~{PENIRQ} (oc) "Pen Interrupt. CMOS logic open-drain output (requires 10 kO to 100 kO pull-up resistor externally).", 12 DOUT (hiz) "Data Out. Logic output. The conversion result from the AD7873 is provided on this output as a serial data stream. The bits are clocked out on the falling edge of the DCLK input. This output is high impedance when C\S\ is (See Datasheet)", 13 BUSY (hiz) "BUSY Output. Logic output. This output is high impedance when C\S\ is high", 14 DIN (in) "Data In. Logic Input. Data to be written to the AD7873 control register is provided on this input and is clocked into the register on the rising edge of DCLK (see the Control Register section).", 15 ~{CS} (in) "Chip Select Input. Active low logic input. This input provides the dual function of initiating conversions on the AD7873 and enabling the serial input/output register.", 16 DCLK (in) "External Clock Input. Logic input. DCLK provides the serial clock for accessing data from the part.This clock input is also used as the clock source for the AD7873 conversion process."

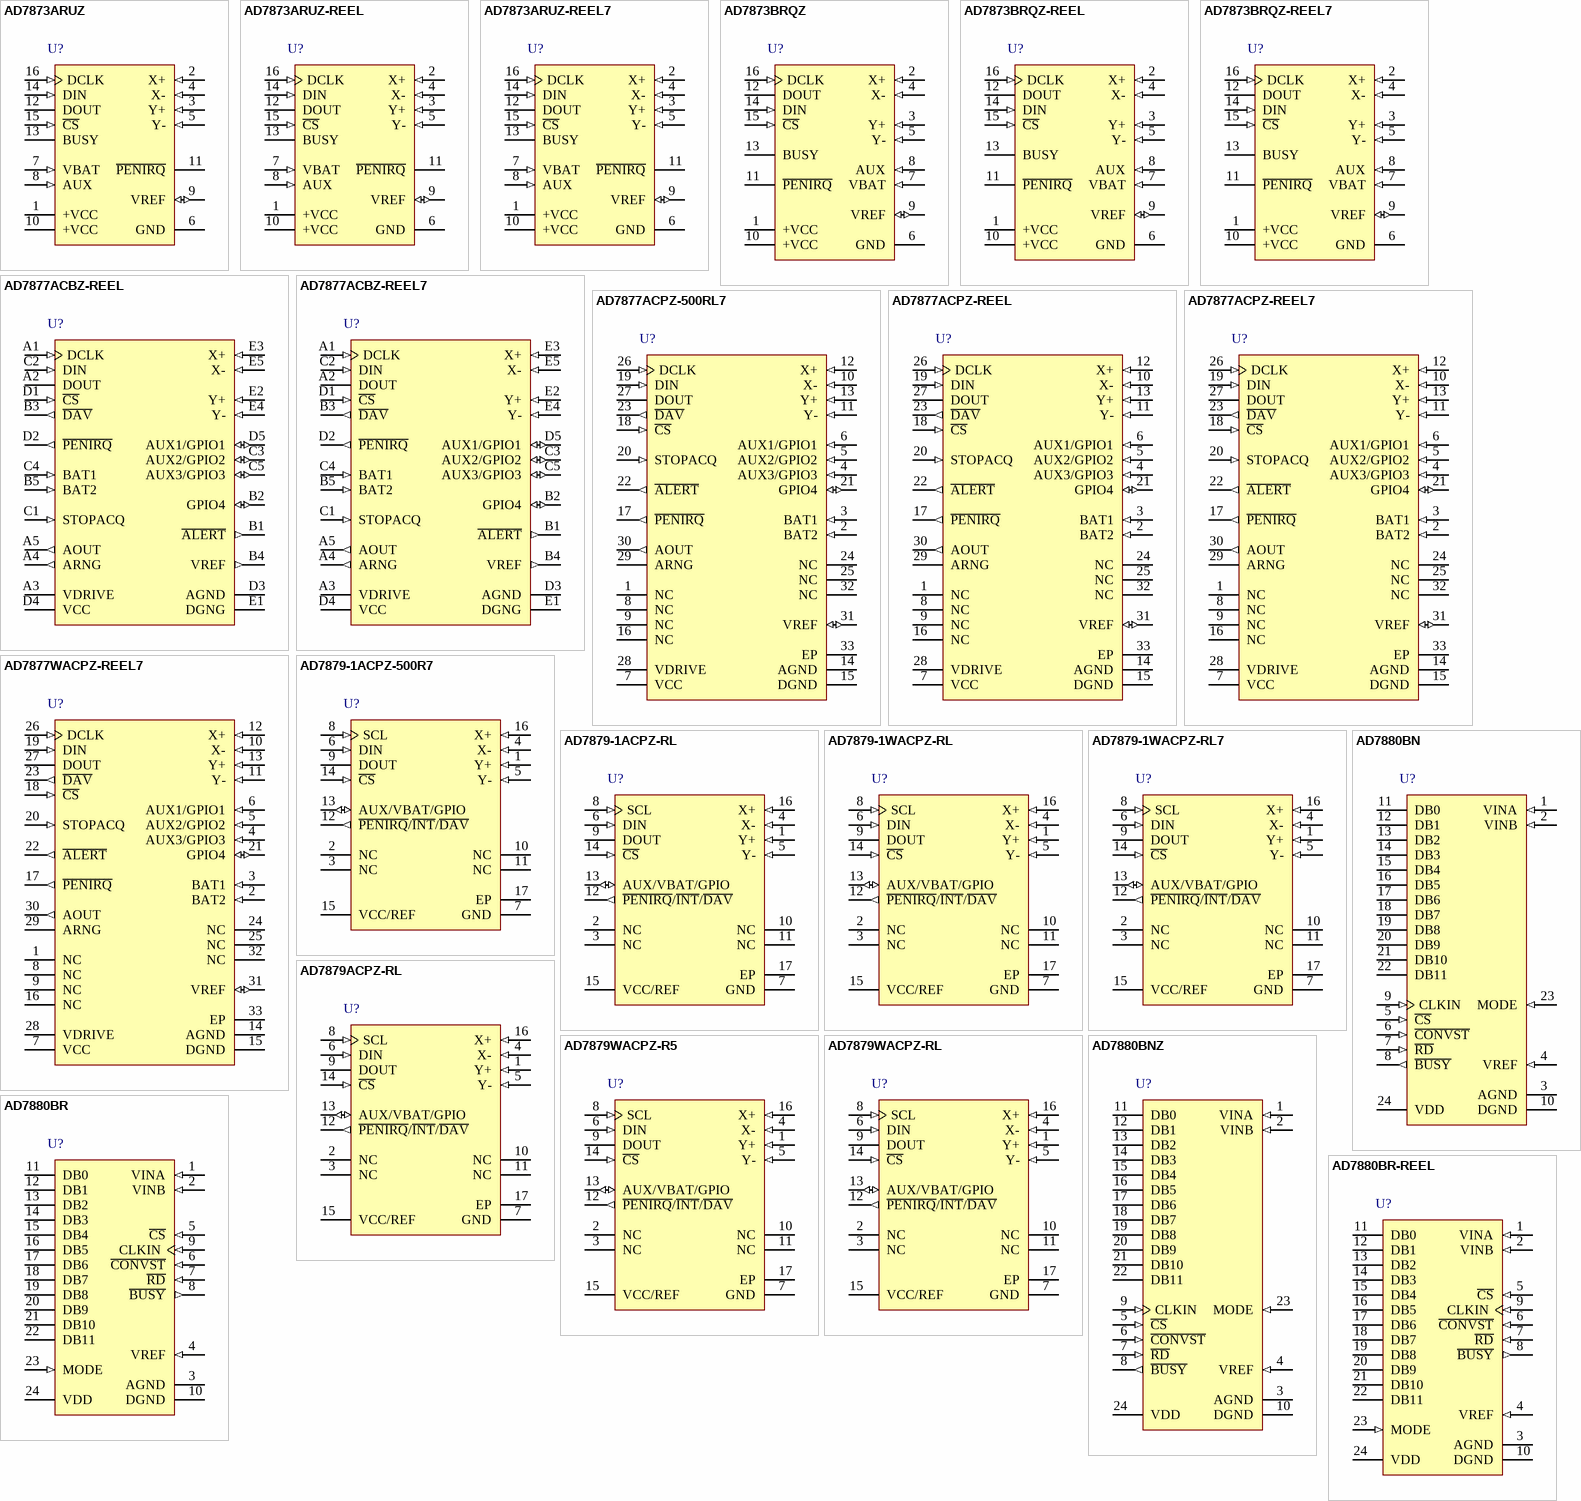
[diagram p77: symbols AD7873ARUZ to AD7880BR-REEL]